# Altium schematic symbol library SCH - CONNECTORS - IRISO - IMSA-9890S-20Z924.SCHLIB: 1 symbol
Pins are listed as number, name and electrical type; pins without a type are passive.

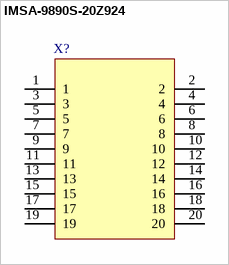
[diagram p0: symbol IMSA-9890S-20Z924]

## IMSA-9890S-20Z924
designator X?  (value not drawn)
pins: 1, 2, 3, 4, 5, 6, 7, 8, 9, 10, 11, 12, 13, 14, 15, 16, 17, 18, 19, 20